# EAGLE library part MF2X5M (library gost_con_mini-fit)
Molex Mini-Fit Jr.™ Connectors
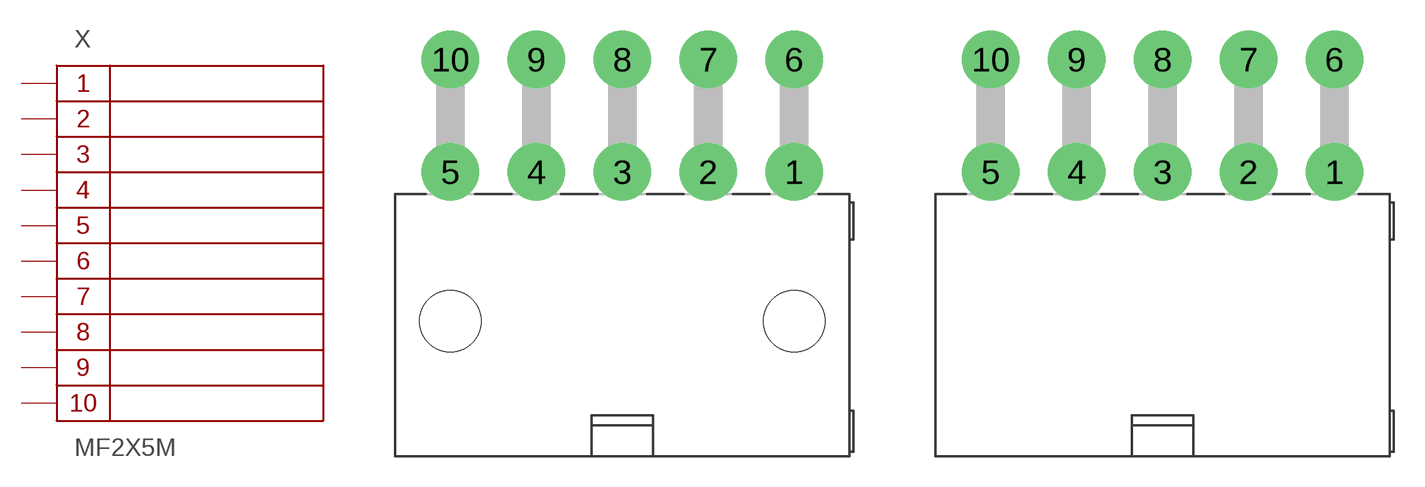
[diagram p4: symbol with the pads of MF2X5MRA; footprints MF2X5MRA, MF2X5MR]

Designator prefix X

## MF2X5MRA  [MF2X5MRA]
1  1
2  2
3  3
4  4
5  5
6  6
7  7
8  8
9  9
10  10

## MF2X5MR  [MF2X5MR]
Pads as for MF2X5MRA

## MF2X5MA  [MF2X5MA]
Pads as for MF2X5MRA

## MF2X5MRB  [MF2X5MRB]
Pads as for MF2X5MRA

## Footprint MF2X5MRA (pad centres in mm)
drill 1.8 pad 2.8: 1 8.4,-2.1; 2 4.2,-2.1; 3 0,-2.1; 4 -4.2,-2.1; 5 -8.4,-2.1; 6 8.4,3.4; 7 4.2,3.4; 8 0,3.4; 9 -4.2,3.4; 10 -8.4,3.4
hole 3 at -8.4,-9.4
hole 3 at 8.4,-9.4

## Footprint MF2X5MR (pad centres in mm)
drill 1.8 pad 2.8: 1 8.4,-2.1; 2 4.2,-2.1; 3 0,-2.1; 4 -4.2,-2.1; 5 -8.4,-2.1; 6 8.4,3.4; 7 4.2,3.4; 8 0,3.4; 9 -4.2,3.4; 10 -8.4,3.4

## Footprint MF2X5MA (pad centres in mm)
drill 1.4 pad 2.6: 1 8.4,-2.75; 2 4.2,-2.75; 3 0,-2.75; 4 -4.2,-2.75; 5 -8.4,-2.75; 6 8.4,2.75; 7 4.2,2.75; 8 0,2.75; 9 -4.2,2.75; 10 -8.4,2.75

## Footprint MF2X5MRB (pad centres in mm)
drill 1.8 pad 2.8: 1 8.4,-2.1; 2 4.2,-2.1; 3 0,-2.1; 4 -4.2,-2.1; 5 -8.4,-2.1; 6 8.4,3.4; 7 4.2,3.4; 8 0,3.4; 9 -4.2,3.4; 10 -8.4,3.4
hole 2.4 at 13,-6.3
hole 2.4 at -13,-6.3